# EAGLE library part SOLARCOMPONENTS_MAX17260 (library SolarPowerBoard)
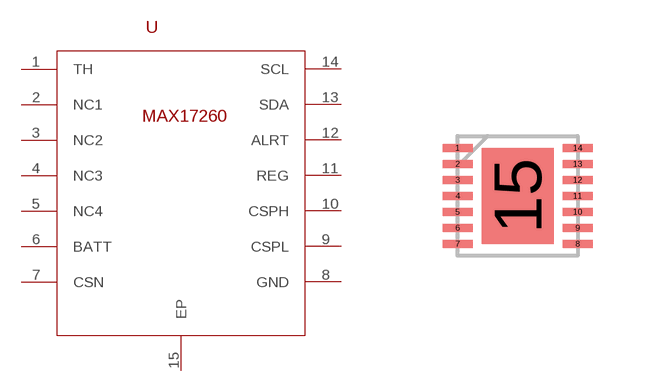
[diagram p5: symbol with the pads of SOLARCOMPONENTS_SON40P300X300X80-15N; footprint SOLARCOMPONENTS_SON40P300X300X80-15N]

Designator prefix -

## SOLARCOMPONENTS_MAX17260  [SOLARCOMPONENTS_SON40P300X300X80-15N]
1  TH
2  NC1
3  NC2
4  NC3
5  NC4
6  BATT
7  CSN
8  GND
9  CSPL
10  CSPH
11  REG
12  ALRT
13  SDA
14  SCL
15  EP

## Footprint SOLARCOMPONENTS_SON40P300X300X80-15N (pad centres in mm)
TDFN-3×3
smd 0.75 x 0.2: 1 -1.5,1.2; 2 -1.5,0.8; 3 -1.5,0.4; 4 -1.5,0; 5 -1.5,-0.4; 6 -1.5,-0.8; 7 -1.5,-1.2; 8 1.5,-1.2; 9 1.5,-0.8; 10 1.5,-0.4; 11 1.5,0; 12 1.5,0.4; 13 1.5,0.8; 14 1.5,1.2
smd 1.8 x 2.4: 15 0,0